# Altium schematic symbol library CRCW060380K6FKEA.SchLib: 1 symbol
Pins are listed as number, name and electrical type; pins without a type are passive.

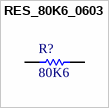
[diagram p0: symbol RES_80K6_0603]

## RES_80K6_0603
designator R?, comment 80K6
-55℃~+155℃ 100mW 75V 80.6kΩ Thick Film Resistor ±1% ±100ppm/℃ 0603 Chip Resistor - Surface Mount ROHS; Part Number: CRCW060380K6FKEA; Manufacturer: Vishay Dale
footprint RESC1609X50X30NL10T20 (Chip Resistor, 2-Leads, Body 1.55x0.85mm, IPC Medium Density)
footprint RESC1609X50X30LL10T20 (Chip Resistor, 2-Leads, Body 1.55x0.85mm, IPC High Density)
footprint RESC1609X50X30ML10T20 (Chip Resistor, 2-Leads, Body 1.55x0.85mm, IPC Low Density)
pins: 1, 2
1 alternate drawing of the same symbol